# Altium schematic symbol library FTSH-105-01-L-D.SchLib: 1 symbol
Pins are listed as number, name and electrical type; pins without a type are passive.

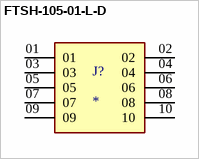
[diagram p0: symbol FTSH-105-01-L-D]

## FTSH-105-01-L-D
designator J?
Connector Header Surface Mount 10 position 0.050 (1.27mm); MP: FTSH-105-01-L-D; MF: Samtec; Package: Connector Header Samtec; Purchase-URL: https://pricing.snapeda.com/search/part/FTSH-105-01-L-D/?ref=eda; Value: *; Availability: Good; Price: None
footprint SAMTEC_FTSH-105-01-L-D
pins: 01, 02, 03, 04, 05, 06, 07, 08, 09, 10